# Altium schematic symbol library LTST-C191KFKT.SchLib: 1 symbol
Pins are listed as number, name and electrical type; pins without a type are passive.

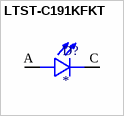
[diagram p0: symbol LTST-C191KFKT]

## LTST-C191KFKT
designator D?
Orange 605nm LED Indication - Discrete 2V 0603 (1608 Metric); MP: LTST-C191KFKT; MF: Lite-On Inc.; Check_prices: https://www.snapeda.com/parts/LTST-C191KFKT/Lite-On+Inc./view-part/?ref=eda; Availability: In Stock; Price: None; Package: 0603 Lite-On; Value: *; SnapEDA_Link: https://www.snapeda.com/parts/LTST-C191KFKT/Lite-On+Inc./view-part/?ref=snap; Purchase-URL: https://pricing.snapeda.com/search/part/LTST-C191KFKT/?ref=eda
footprint LEDC1608X55N
pins: A, C